# Altium schematic symbol library MTMM-101-03-T-S-196.SchLib: 1 symbol
Pins are listed as number, name and electrical type; pins without a type are passive.

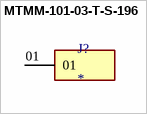
[diagram p0: symbol MTMM-101-03-T-S-196]

## MTMM-101-03-T-S-196
designator J?
Connector Header position; MF: {'manufacturer': u'Samtec'}; MP: MTMM-101-03-T-S-196; Package: None; Value: *; Availability: Unavailable; Price: None
footprint SAMTEC_MTMM-101-03-T-S-196
pins: 01